# Altium integrated library UP31-CV-G-CM[USB-C TYPE].IntLib: 1 symbol
Pins are listed as number, name and electrical type; pins without a type are passive.

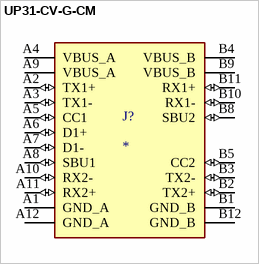
[diagram p0: symbol UP31-CV-G-CM]

## UP31-CV-G-CM
designator J?
Type C, USB 3.1 Gen 2, 5 A, Vertical, Cable Mount, USB Plug Connector; MF: CUI Devices; MP: UP31-CV-G-CM; Check_prices: https://www.snapeda.com/parts/UP31-CV-G-CM/CUI%20Devices/view-part/2768202/?ref=eda; Package: None; CUI_purchase_URL: https://www.cuidevices.com/product/interconnect/connectors/usb-connectors/up31-cv-g-cm?utm_source=snapeda.com&utm_medium=referral&utm_campaign=snapedaBOM; Value: *; Price: None; Availability: In Stock; SnapEDA_Link: https://www.snapeda.com/parts/UP31-CV-G-CM/CUI%20Devices/view-part/2768202/?ref=snap; Purchase-URL: https://pricing.snapeda.com/search/part/UP31-CV-G-CM/?ref=eda
footprint CUI_UP31-CV-G-CM
pins: A1 GND_A (power), A2 TX1+ (io), A3 TX1- (io), A4 VBUS_A (power), A5 CC1 (io), A6 D1+ (io), A7 D1- (io), A8 SBU1 (io), A9 VBUS_A (power), A10 RX2- (io), A11 RX2+ (io), A12 GND_A (power), B1 GND_B (power), B2 TX2+ (io), B3 TX2- (io), B4 VBUS_B (power), B5 CC2 (io), B8 SBU2 (io), B9 VBUS_B (power), B10 RX1- (io), B11 RX1+ (io), B12 GND_B (power)